# Altium footprint library capEL_100uF_25v_smd.PcbLib: 1 footprints
Each footprint in its own frame and in the unit in brackets; x right, y up, seen from the top. Pads: shape width x height; smd on the part's side, far side on the other; paste and mask are expansions set on the pad; w line width, h text height; cw(c..) or ccw(c..) is an arc to the next point about the centre after c.
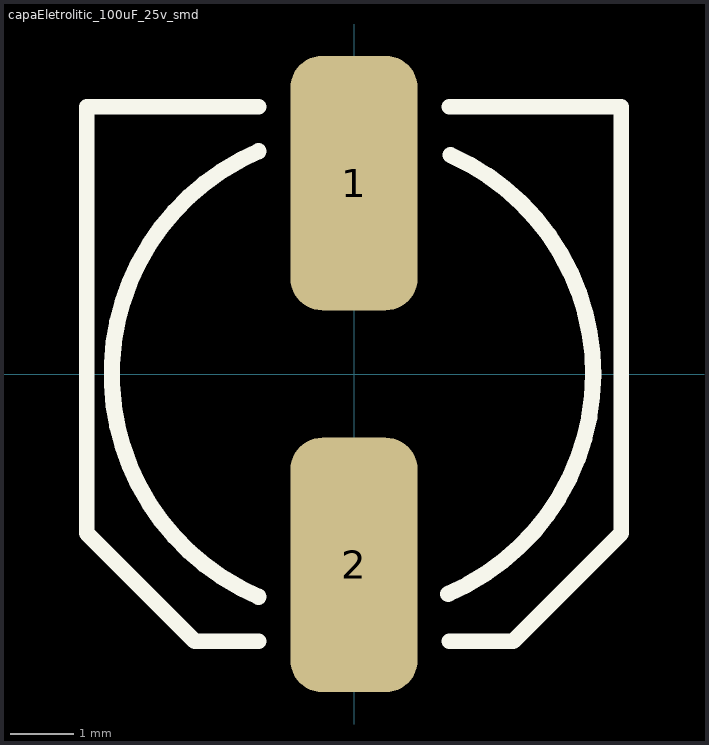
[diagram p0: the footprint, top view; thin cyan lines are the x and y axes]

## capaEletrolitic_100uF_25v_smd [mm]
pads (2):
  rrect50% 2x4 smd: 1(0,3) 2(0,-3)
Top Overlay:
  lines w0.25: -1.5,-4.2 -2.5,-4.2 -4.2,-2.5 -4.2,0 -4.2,4.2 -1.5,4.2 ; 1.5,-4.2 2.5,-4.2 4.2,-2.5 4.2,4.2 1.5,4.2
  lines w0.254: -1.5,-3.5 cw(c0,0) -1.5,3.5 ; 1.481,-3.455 ccw(c0,0) 1.517,3.439
3D body: height 11.9, standoff -0.05, extent -4.15,-4.4 4.15,4.6